# EAGLE library part HEF4794 (library synthdiy)
8-stage shift-and-store register LED driver
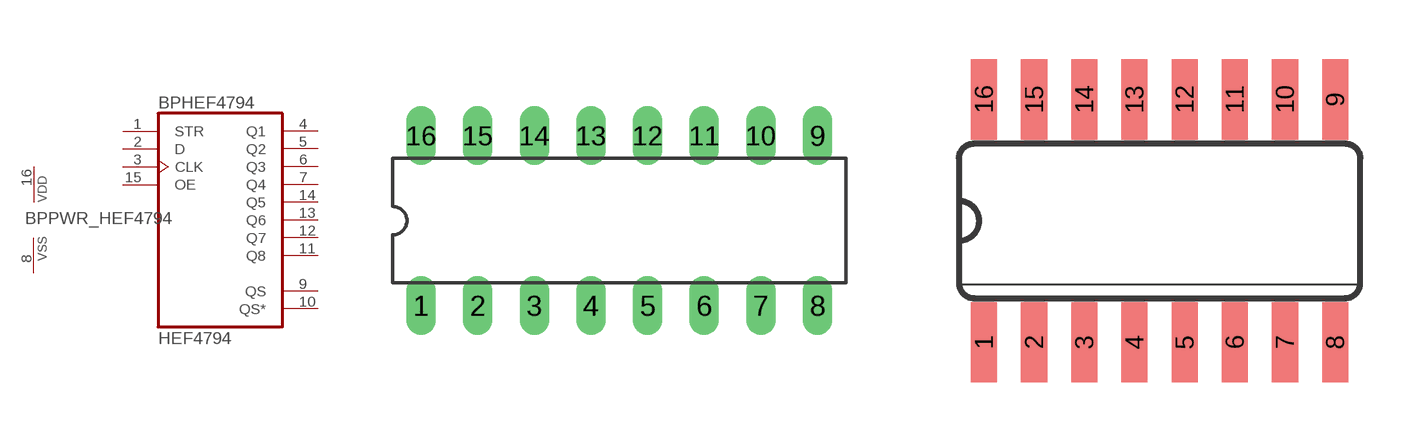
[diagram p19: symbol with the pads of DIL16; footprints DIL16, SO16]

Designator prefix BP; gates HEF4794=HEF4794 PWR_HEF4794=PWRN

## HEF4794BP  [DIL16]
1  HEF4794:STR  in
2  HEF4794:D  in
3  HEF4794:CLK  in
4  HEF4794:Q1  out
5  HEF4794:Q2  out
6  HEF4794:Q3  out
7  HEF4794:Q4  out
8  PWR_HEF4794:VSS  pwr
9  HEF4794:QS  out
10  HEF4794:QS*  out
11  HEF4794:Q8  out
12  HEF4794:Q7  out
13  HEF4794:Q6  out
14  HEF4794:Q5  out
15  HEF4794:OE  in
16  PWR_HEF4794:VDD  pwr

## HEF4794BT  [SO16]
Pads as for DIL16

## Footprint DIL16 (pad centres in mm)
Dual In Line 16
drill 0.813 long: 1 -8.89,-3.81; 2 -6.35,-3.81; 3 -3.81,-3.81; 4 -1.27,-3.81; 5 1.27,-3.81; 6 3.81,-3.81; 7 6.35,-3.81; 8 8.89,-3.81; 9 8.89,3.81; 10 6.35,3.81; 11 3.81,3.81; 12 1.27,3.81; 13 -1.27,3.81; 14 -3.81,3.81; 15 -6.35,3.81; 16 -8.89,3.81

## Footprint SO16 (pad centres in mm)
Small Outline Package 16
smd 0.66 x 2.032: 1 -4.445,-3.073; 2 -3.175,-3.073; 3 -1.905,-3.073; 4 -0.635,-3.073; 5 0.635,-3.073; 6 1.905,-3.073; 7 3.175,-3.073; 8 4.445,-3.073; 9 4.445,3.073; 10 3.175,3.073; 11 1.905,3.073; 12 0.635,3.073; 13 -0.635,3.073; 14 -1.905,3.073; 15 -3.175,3.073; 16 -4.445,3.073